# Altium schematic symbol library MOSFET_P_GSD.Schlib: 1 symbol
Pins are listed as number, name and electrical type; pins without a type are passive.

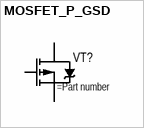
[diagram p0: symbol MOSFET_P_GSD]

## MOSFET_P_GSD
designator VT?
pins: 1 G, 2 S, 3 D